# EAGLE library part GOGO_24LCXX (library A10-A20-OLINUXINO-MICRO-4GB_Rev_D)
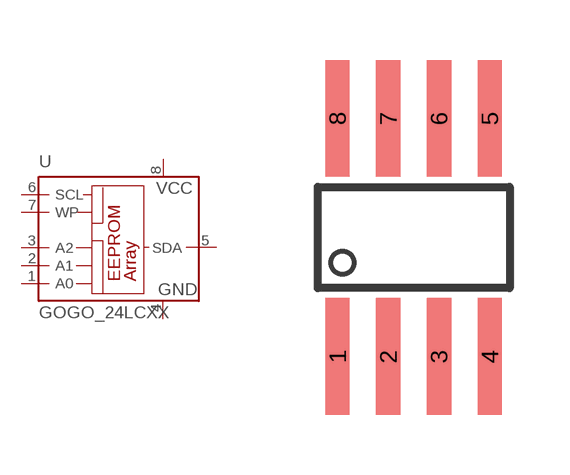
[diagram p19: symbol with the pads of GOGO_SO-08MN; footprint GOGO_SO-08MN]

Designator prefix U

## GOGO_24LCXX  [GOGO_SO-08MN]
1  A0  in
2  A1  in
3  A2  in
4  GND  pwr
5  SDA
6  SCL  in
7  WP  in
8  VCC  pwr

## Footprint GOGO_SO-08MN (pad centres in mm)
smd 0.61 x 2.921: 1 -1.905,-2.981; 2 -0.635,-2.981; 3 0.635,-2.981; 4 1.905,-2.981; 5 1.905,2.981; 6 0.635,2.981; 7 -0.635,2.981; 8 -1.905,2.981